# Altium schematic symbol library LM Logo.Schlib: 1 symbol
Pins are listed as number, name and electrical type; pins without a type are passive.

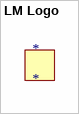
[diagram p0: symbol LM Logo]

## LM Logo
designator *